# Altium integrated library LP5912-5.0DRVR.IntLib: 1 symbol
Pins are listed as number, name and electrical type; pins without a type are passive.

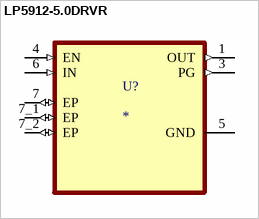
[diagram p0: symbol LP5912-5.0DRVR]

## LP5912-5.0DRVR
designator U?
500-mA, low-noise, low-IQ, low-dropout voltage regulator with reverse current protection 6-WSON -40 to 125; MP: LP5912-5.0DRVR; MF: Texas Instruments; Value: *; Purchase-URL: https://pricing.snapeda.com/search/part/LP5912-5.0DRVR/?ref=eda; Package: WSON-6 Texas Instruments; Check_prices: https://www.snapeda.com/parts/LP5912-5.0DRVR/Texas%20Instruments/view-part/3222625/?ref=eda; Digi-Key_Part_Number: 296-53182-1-ND; SnapEDA_Link: https://www.snapeda.com/parts/LP5912-5.0DRVR/Texas%20Instruments/view-part/3222625/?ref=snap
footprint SON65P200X200X80-7N
pins: 1 OUT (out), 3 PG (out), 4 EN (in), 5 GND (power), 6 IN (in), 7 EP (io), 7_1 EP (io), 7_2 EP (io)